# EAGLE library part LMR66410MC5RXBRQ1 (library LMR66410MC5RXBRQ1)
Switching Voltage Regulators Automotive, 36V, 1A synchronous step-down converter with 1.5uA IQ and low EMI 14-VQFN-FCRLF -40 to 125 Source: Datasheet <https://www.ti.com/lit/ds/symlink/lmr66410-q1.pdf?ts=1721818426911&ref_url=https%3A%2F%2Fwww.ti.com%2Fproduct%2FLMR66410-Q1%2Fpart-details%2FLMR66410MC5RXBRQ1%3Futm_source%3Dgoogle%26utm_medium%3Dcpc%26utm_campaign%3Docb-tistore->
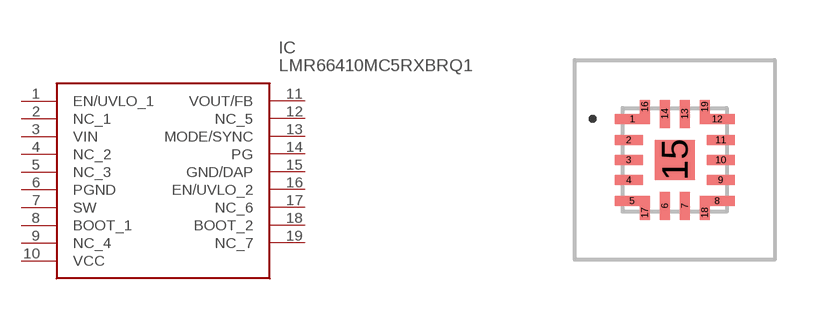
[diagram p0: symbol with the pads of LMR66430R5RXBR; footprint LMR66430R5RXBR]

Designator prefix IC

## LMR66410MC5RXBRQ1 (Description: Switching Voltage Regulators Automotive, 36V, 1A synchronous step-down converter with 1.5uA IQ and low EMI 14-VQFN-FCRLF -40 to 125; Height: 1.05mm; Manufacturer_Name: Texas Instruments; Manufacturer_Part_Number: LMR66410MC5RXBRQ1; Mouser_Part_Number: 595-LMR66410MC5RXRQ1; Mouser_Price-Stock: https://www.mouser.co.uk/ProductDetail/Texas-Instruments/LMR66410MC5RXBRQ1?qs=ZcfC38r4Posa4PoE3lfIOA%3D%3D)  [LMR66430R5RXBR]
1  EN/UVLO_1
2  NC_1
3  VIN
4  NC_2
5  NC_3
6  PGND
7  SW
8  BOOT_1
9  NC_4
10  VCC
11  VOUT/FB
12  NC_5
13  MODE/SYNC
14  PG
15  GND/DAP
16  EN/UVLO_2
17  NC_6
18  BOOT_2
19  NC_7

## Footprint LMR66430R5RXBR (pad centres in mm)
RXB0014A
smd 0.875 x 0.25: 1 -1.062,1.025; 5 -1.062,-1.025; 8 1.063,-1.025; 12 1.063,1.025
smd 0.7 x 0.25: 2 -1.15,0.5; 3 -1.15,0; 4 -1.15,-0.5; 9 1.15,-0.5; 10 1.15,0; 11 1.15,0.5
smd 0.25 x 0.7: 6 -0.25,-1.15; 7 0.25,-1.15; 13 0.25,1.15; 14 -0.25,1.15
smd 1 x 1: 15 0,0
smd 0.25 x 0.35: 16 -0.75,1.325; 17 -0.75,-1.325; 18 0.75,-1.325; 19 0.75,1.325